# Altium footprint library 6N137.PcbLib: 1 footprints
Each footprint in its own frame and in the unit in brackets; x right, y up, seen from the top. Pads: shape width x height; smd on the part's side, far side on the other; paste and mask are expansions set on the pad; w line width, h text height; cw(c..) or ccw(c..) is an arc to the next point about the centre after c.
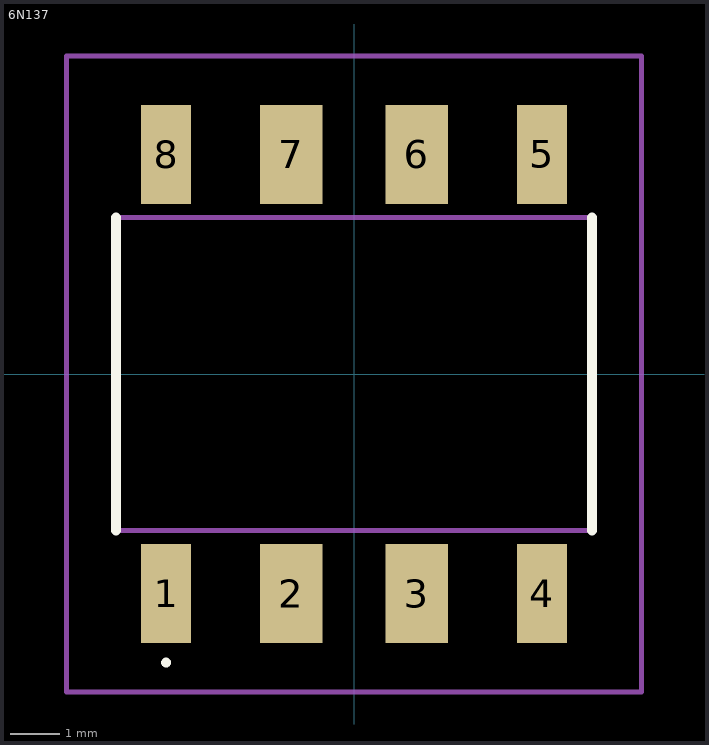
[diagram p0: the footprint, top view; thin cyan lines are the x and y axes]

## 6N137 [mm]
pads (8):
  rect 1.016x2 smd: 1(-3.81,-4.45) 4(3.81,-4.45) 5(3.81,4.45) 8(-3.81,4.45)
  rect 1.27x2 smd: 2(-1.27,-4.45) 3(1.27,-4.45) 6(1.27,4.45) 7(-1.27,4.45)
Top Overlay:
  lines w0.1: -3.81,-5.9 -3.81,-5.9 ; -3.81,-5.9 ccw(c-3.81,-5.85) -3.81,-5.8 ; -3.81,-5.9 cw(c-3.81,-5.85) -3.81,-5.8 ; -3.81,-5.8 -3.81,-5.8
  lines w0.2: -4.825,-3.175 -4.825,3.175 ; 4.825,-3.175 4.825,3.175
Mechanical 15:
  lines w0.1: -4.825,-3.175 4.825,-3.175 4.825,3.175 -4.825,3.175 -4.825,-3.175
Mechanical 20:
  lines w0.1: -5.825,-6.45 5.825,-6.45 5.825,6.45 -5.825,6.45 -5.825,-6.45